# EAGLE library part RK1?-L2* (library relay)
1.5 GHz MICROWAVE RELAY NAiS Source: http://www.mew-europe.com/.. en_ds_61311_0000.pdf
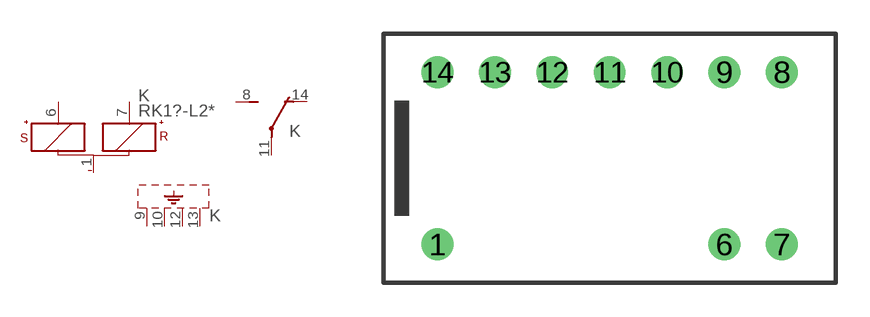
[diagram p111: symbol with the pads of RKL2; footprint RKL2]

Designator prefix K; gates 1=+KS+KR- 2=U S1=SHIELD-4

## RK1-L2 (MF: AROMAT/ MATSUSHITA; MPN: RK1-L2-12V; OC_FARNELL: 1616207; OC_NEWARK: 10C9189)  [RKL2]
1  1:-  pas
6  1:S+  pas
7  1:R+  pas
8  2:S  pas
9  S1:SH  pas
10  S1:SH  pas
11  2:P  pas
12  S1:SH  pas
13  S1:SH  pas
14  2:O  pas

## RK1R-L2 (OC_FARNELL: unknown; OC_NEWARK: unknown)  [RKL2]
1  1:-  pas
6  1:S+  pas
7  1:R+  pas
8  2:O  pas
9  S1:SH  pas
10  S1:SH  pas
11  2:P  pas
12  S1:SH  pas
13  S1:SH  pas
14  2:S  pas

## Footprint RKL2 (pad centres in mm)
1.5 GHz MICROWAVE RELAY NAiS Source: http://www.mew-europe.com/.. en_ds_61311_0000.pdf
drill 0.9: 1 -7.62,-3.81; 6 5.08,-3.81; 7 7.62,-3.81; 8 7.62,3.81; 9 5.08,3.81; 10 2.54,3.81; 11 0,3.81; 12 -2.54,3.81; 13 -5.08,3.81; 14 -7.62,3.81